# Altium footprint library LM2596S.PcbLib: 1 footprints
Each footprint in its own frame and in the unit in brackets; x right, y up, seen from the top. Pads: shape width x height; smd on the part's side, far side on the other; paste and mask are expansions set on the pad; w line width, h text height; cw(c..) or ccw(c..) is an arc to the next point about the centre after c.
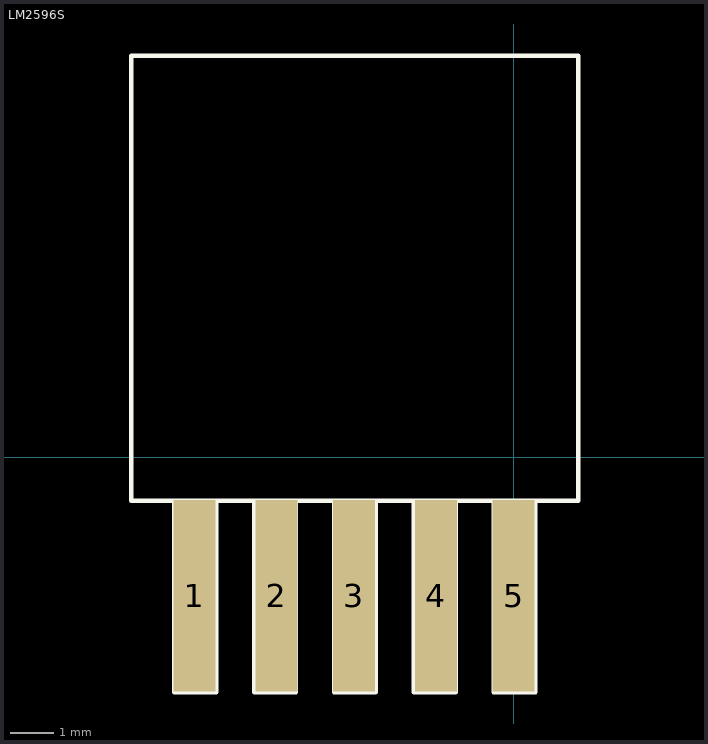
[diagram p0: the footprint, top view; thin cyan lines are the x and y axes]

## LM2596S [mm]
pads (5):
  rect 0.97x4.44 smd mask+0.01: 1(-7.4,-3.2) 2(-5.5,-3.2) 3(-3.7,-3.2) 4(-1.8,-3.2) 5(0,-3.2)
Top Overlay:
  lines w0.1: -7.865,-1 -7.865,-5.44 -6.895,-5.44 -6.895,-1 ; -6.015,-1 -6.015,-5.44 -5.045,-5.44 -5.045,-1 ; -4.165,-1 -4.165,-5.44 -3.195,-5.44 -3.195,-1 ; -2.315,-1 -2.315,-5.44 -1.345,-5.44 -1.345,-1 ; -0.465,-1 -0.465,-5.44 0.505,-5.44 0.505,-1 ; -8.86,-1 1.5,-1 1.5,9.31 -8.86,9.31 -8.86,-1